# Altium footprint library PCB1.PcbLib: 25 footprints (part 2 of 2)
Each footprint in its own frame and in the unit in brackets; x right, y up, seen from the top. Pads: shape width x height; smd on the part's side, far side on the other; paste and mask are expansions set on the pad; w line width, h text height; cw(c..) or ccw(c..) is an arc to the next point about the centre after c.
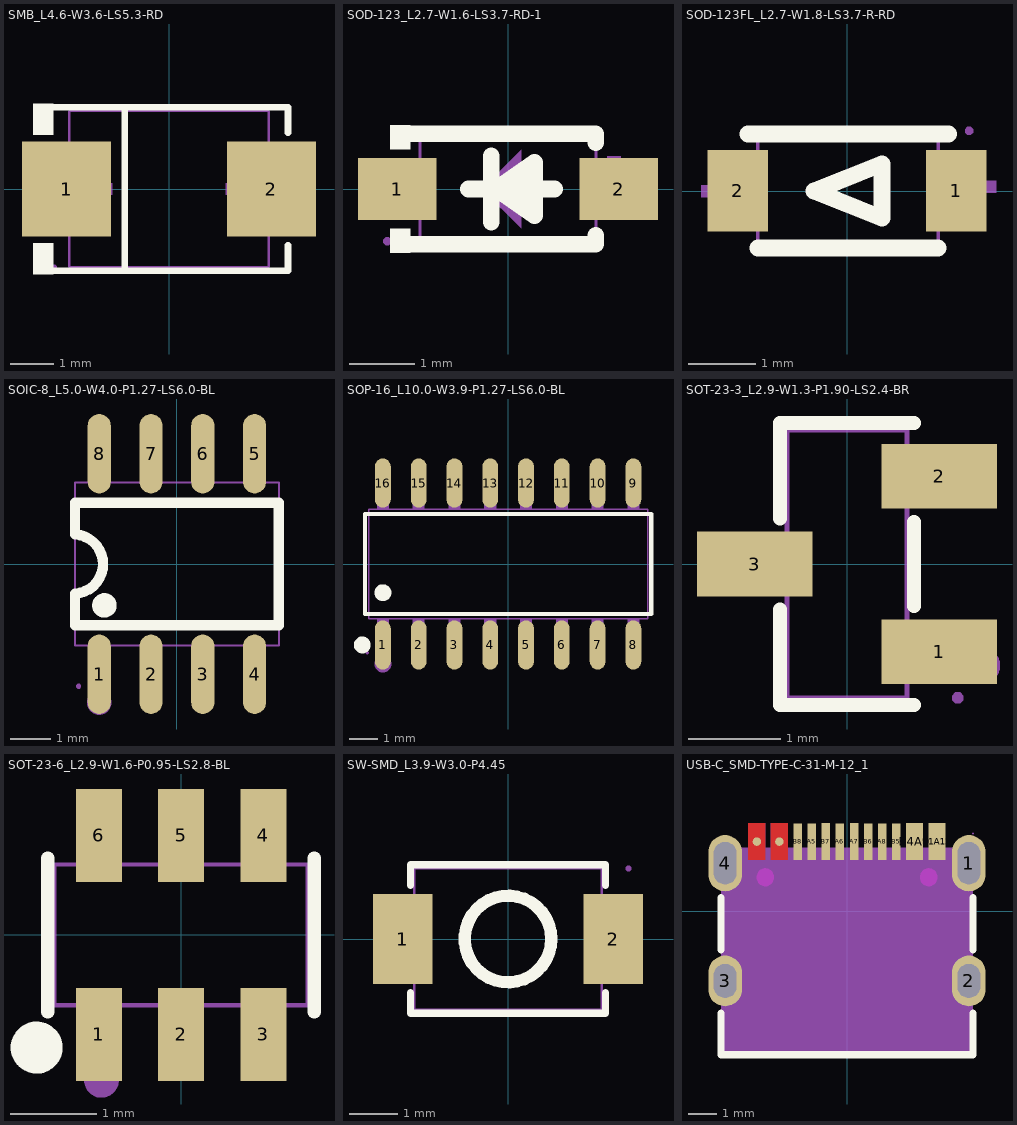
[diagram p1: the footprints below, top view; thin cyan lines are the x and y axes]

## SMB_L4.6-W3.6-LS5.3-RD [mm]
pads (2):
  rect 2.047x2.192 smd: 1(-2.361,0) 2(2.361,0)
Top Overlay:
  region: -2.668,-1.962 -2.668,-1.249 -3.125,-1.249 -3.125,-1.962
  region: -2.668,1.962 -2.668,1.249 -3.125,1.249 -3.125,1.962
  lines w0.152: -2.744,-1.886 2.744,-1.886 2.744,-1.299 ; -2.744,1.886 2.744,1.886 2.744,1.299 ; -1.016,-1.886 -1.016,1.886
Mechanical 6:
  region: 1.989,-0.905 1.989,0.905 1.717,0.905 1.717,-0.905
  region: 2.396,-0.136 2.396,0.136 1.31,0.136 1.31,-0.136
  region: -2.396,-0.136 -2.396,0.136 -1.31,0.136 -1.31,-0.136
Mechanical 7:
  lines w0.051: -2.3,-1.8 2.3,-1.8 2.3,1.8 -2.3,1.8 -2.3,-1.8
Mechanical 8:
  region: -2.59,-1.8 -2.59,-1.825 -2.625,-1.86 -2.674,-1.86 -2.709,-1.825 -2.709,-1.8 -2.709,-1.775 -2.674,-1.74 -2.625,-1.74 -2.59,-1.775 -2.59,-1.8
Mechanical 9:
  region: 2.649,-1.015 2.649,1.015 1.509,1.015 1.509,-1.015
  region: -2.649,-1.015 -2.649,1.015 -1.509,1.015 -1.509,-1.015

## SOD-123_L2.7-W1.6-LS3.7-RD-1 [mm]
pads (2):
  rect 1.2x0.95 smd: 1(-1.7,0) 2(1.7,0)
Top Overlay:
  region: -1.502,-0.977 -1.502,-0.607 -1.806,-0.607 -1.806,-0.977
  region: -1.502,0.977 -1.502,0.607 -1.806,0.607 -1.806,0.977
  region: 0.406,-0.406 0.406,0.406 -0.178,0
  lines w0.254: -1.644,0.849 -1.643,0.85 -1.346,0.85 1.346,0.85 1.346,0.706 ; -1.639,-0.849 -1.638,-0.85 -1.346,-0.85 1.346,-0.85 1.346,-0.706 ; -0.61,0 -0.28,0 ; -0.254,-0.508 -0.254,0.508 ; 0.406,0 0.72,0 ; -0.178,0 0.406,-0.406 0.406,0.406 -0.178,0
Mechanical 6:
  region: -0.4,0 0.2,-0.6 0.2,0.6
  region: -2.042,0.124 -1.2,0.124 -1.2,-0.083 -2.042,-0.083
  region: 1.525,-0.338 1.525,0.504 1.732,0.504 1.732,-0.339
  region: 1.19,0.212 2.032,0.212 2.032,0.005 1.189,0.005
Mechanical 7:
  lines w0.051: -1.35,-0.8 1.35,-0.8 1.35,0.8 -1.35,0.8 -1.35,-0.8
Mechanical 8:
  region: -1.79,-0.8 -1.79,-0.825 -1.825,-0.86 -1.875,-0.86 -1.91,-0.825 -1.91,-0.8 -1.91,-0.775 -1.875,-0.74 -1.825,-0.74 -1.79,-0.775 -1.79,-0.8
Mechanical 9:
  region: 1.5,-0.275 1.5,0.275 1.85,0.275 1.85,-0.275
  region: -1.85,-0.275 -1.85,0.275 -1.5,0.275 -1.5,-0.275
Mechanical 10:
  region: 1.34,-0.275 1.34,0.275 1.51,0.275 1.51,-0.275
  region: -1.51,-0.275 -1.51,0.275 -1.34,0.275 -1.34,-0.275

## SOD-123FL_L2.7-W1.8-LS3.7-R-RD [mil]
pads (2):
  rect 35.8x48 smd: 1(64.34,0) 2(-64.34,0)
Top Overlay:
  lines w10: -58.41,33.47 59.7,33.47 ; -52.35,-33.47 53.65,-33.47 ; -19.35,0 20.65,-16 20.65,16 -19.35,0
Mechanical 6:
  region: 65.86,-17.17 65.86,17.48 72.94,17.48 72.94,-17.17
  region: 87.9,-0.94 53.25,-0.94 53.25,6.14 87.9,6.14
  region: -51.08,-3.69 -85.73,-3.69 -85.73,3.39 -51.08,3.39
Mechanical 7:
  lines w2: -52.5,-35.43 53.8,-35.43 53.8,35.43 -52.5,35.43 -52.5,-35.43
Mechanical 8:
  region: 74.28,35.43 74.28,34.45 72.89,33.07 70.94,33.07 69.55,34.45 69.55,35.43 69.55,36.41 70.94,37.79 72.89,37.79 74.28,36.41 74.28,35.43
Mechanical 9:
  region: 49.12,20 72.74,20 72.74,-19.37 49.12,-19.37
  region: -72.81,20 -49.19,20 -49.19,-19.37 -72.81,-19.37

## SOIC-8_L5.0-W4.0-P1.27-LS6.0-BL [mil]
pads (8):
  oval 22.38x76.78 smd: 1(-75,-106.5) 2(-25,-106.5) 3(25,-106.5) 4(75,-106.5) 5(75,106.5) 6(25,106.5) 7(-25,106.5) 8(-75,106.5)
Top Overlay:
  circle w11.81: c-70,-40 r5.91
  lines w10: -98.43,-28.61 ccw(c-99.99,0) -98.23,28.59 ; -98.42,-28.61 -98.42,-59.05 98.42,-59.05 98.42,59.05 -98.42,59.05 -98.42,28.59
Mechanical 6:
  circle w11.81: c-75,-133.86 r5.91
Mechanical 7:
  lines w2: -98.42,-78.74 98.42,-78.74 98.42,78.74 -98.42,78.74 -98.42,-78.74
Mechanical 8:
  region: -92.64,-118.11 -92.64,-119.09 -94.02,-120.47 -95.98,-120.47 -97.36,-119.09 -97.36,-118.11 -97.36,-117.13 -95.98,-115.75 -94.02,-115.75 -92.64,-117.13 -92.64,-118.11
Mechanical 9:
  region: -83.07,-118.11 -83.07,-85.24 -66.93,-85.24 -66.93,-118.11
  region: -33.07,-118.11 -33.07,-85.24 -16.93,-85.24 -16.93,-118.11
  region: 16.93,-118.11 16.93,-85.24 33.07,-85.24 33.07,-118.11
  region: 66.93,-118.11 66.93,-85.24 83.07,-85.24 83.07,-118.11
  region: -83.07,85.24 -83.07,118.11 -66.93,118.11 -66.93,85.24
  region: -33.07,85.24 -33.07,118.11 -16.93,118.11 -16.93,85.24
  region: 16.93,85.24 16.93,118.11 33.07,118.11 33.07,85.24
  region: 66.93,85.24 66.93,118.11 83.07,118.11 83.07,85.24
Mechanical 10:
  region: -83.07,-85.63 -83.07,-76.38 -66.93,-76.38 -66.93,-85.63
  region: -33.07,-85.63 -33.07,-76.38 -16.93,-76.38 -16.93,-85.63
  region: 16.93,-85.63 16.93,-76.38 33.07,-76.38 33.07,-85.63
  region: 66.93,-85.63 66.93,-76.38 83.07,-76.38 83.07,-85.63
  region: -83.07,76.38 -83.07,85.63 -66.93,85.63 -66.93,76.38
  region: -33.07,76.38 -33.07,85.63 -16.93,85.63 -16.93,76.38
  region: 16.93,76.38 16.93,85.63 33.07,85.63 33.07,76.38
  region: 66.93,76.38 66.93,85.63 83.07,85.63 83.07,76.38

## SOP-16_L10.0-W3.9-P1.27-LS6.0-BL [mm]
pads (16):
  oval 0.56x1.745 smd: 1(-4.445,-2.872) 2(-3.175,-2.872) 3(-1.905,-2.872) 4(-0.635,-2.872) 5(0.635,-2.872) 6(1.905,-2.872) 7(3.175,-2.872) 8(4.445,-2.872) 9(4.445,2.872) 10(3.175,2.872) 11(1.905,2.872) 12(0.635,2.872) 13(-0.635,2.872) 14(-1.905,2.872) 15(-3.175,2.872) 16(-4.445,2.872)
Top Overlay:
  circle w0.3: c-5.177,-2.872 r0.15
  circle w0.3: c-4.445,-1.019 r0.15
  lines w0.152: -5.076,-1.771 5.076,-1.771 5.076,1.771 -5.076,1.771 -5.076,-1.771
Mechanical 6:
  circle w0.3: c-4.445,-3.55 r0.15
Mechanical 7:
  lines w0.051: -4.95,-1.95 4.95,-1.95 4.95,1.95 -4.95,1.95 -4.95,-1.95
Mechanical 8:
  region: -4.94,-3.15 -4.94,-3.175 -4.975,-3.21 -5.025,-3.21 -5.06,-3.175 -5.06,-3.15 -5.06,-3.125 -5.025,-3.09 -4.975,-3.09 -4.94,-3.125 -4.94,-3.15
Mechanical 9:
  region: -4.65,-3 -4.65,-2.165 -4.24,-2.165 -4.24,-3
  region: -3.38,-3 -3.38,-2.165 -2.97,-2.165 -2.97,-3
  region: -2.11,-3 -2.11,-2.165 -1.7,-2.165 -1.7,-3
  region: -0.84,-3 -0.84,-2.165 -0.43,-2.165 -0.43,-3
  region: 0.43,-3 0.43,-2.165 0.84,-2.165 0.84,-3
  region: 1.7,-3 1.7,-2.165 2.11,-2.165 2.11,-3
  region: 2.97,-3 2.97,-2.165 3.38,-2.165 3.38,-3
  region: 4.24,-3 4.24,-2.165 4.65,-2.165 4.65,-3
  region: -4.65,2.165 -4.65,3 -4.24,3 -4.24,2.165
  region: -3.38,2.165 -3.38,3 -2.97,3 -2.97,2.165
  region: -2.11,2.165 -2.11,3 -1.7,3 -1.7,2.165
  region: -0.84,2.165 -0.84,3 -0.43,3 -0.43,2.165
  region: 0.43,2.165 0.43,3 0.84,3 0.84,2.165
  region: 1.7,2.165 1.7,3 2.11,3 2.11,2.165
  region: 2.97,2.165 2.97,3 3.38,3 3.38,2.165
  region: 4.24,2.165 4.24,3 4.65,3 4.65,2.165
Mechanical 10:
  region: -4.65,-2.175 -4.65,-1.94 -4.24,-1.94 -4.24,-2.175
  region: -3.38,-2.175 -3.38,-1.94 -2.97,-1.94 -2.97,-2.175
  region: -2.11,-2.175 -2.11,-1.94 -1.7,-1.94 -1.7,-2.175
  region: -0.84,-2.175 -0.84,-1.94 -0.43,-1.94 -0.43,-2.175
  region: 0.43,-2.175 0.43,-1.94 0.84,-1.94 0.84,-2.175
  region: 1.7,-2.175 1.7,-1.94 2.11,-1.94 2.11,-2.175
  region: 2.97,-2.175 2.97,-1.94 3.38,-1.94 3.38,-2.175
  region: 4.24,-2.175 4.24,-1.94 4.65,-1.94 4.65,-2.175
  region: -4.65,1.94 -4.65,2.175 -4.24,2.175 -4.24,1.94
  region: -3.38,1.94 -3.38,2.175 -2.97,2.175 -2.97,1.94
  region: -2.11,1.94 -2.11,2.175 -1.7,2.175 -1.7,1.94
  region: -0.84,1.94 -0.84,2.175 -0.43,2.175 -0.43,1.94
  region: 0.43,1.94 0.43,2.175 0.84,2.175 0.84,1.94
  region: 1.7,1.94 1.7,2.175 2.11,2.175 2.11,1.94
  region: 2.97,1.94 2.97,2.175 3.38,2.175 3.38,1.94
  region: 4.24,1.94 4.24,2.175 4.65,2.175 4.65,1.94

## SOT-23-3_L2.9-W1.3-P1.90-LS2.4-BR [mm]
pads (3):
  rect 1.25x0.7 smd: 1(1,-0.95) 2(1,0.95) 3(-1,0)
Top Overlay:
  lines w0.152: -0.726,-0.495 -0.726,-1.526 0.726,-1.526 ; -0.726,0.495 -0.726,1.526 0.726,1.526 ; 0.726,-0.455 0.726,0.455
Mechanical 6:
  circle w0.2: c1.46,-1.1 r0.1
Mechanical 7:
  lines w0.051: -0.65,-1.45 0.65,-1.45 0.65,1.45 -0.65,1.45 -0.65,-1.45
Mechanical 8:
  region: 1.26,-1.45 1.26,-1.475 1.225,-1.51 1.175,-1.51 1.14,-1.475 1.14,-1.45 1.14,-1.425 1.175,-1.39 1.225,-1.39 1.26,-1.425 1.26,-1.45
Mechanical 9:
  region: -1.2,-0.215 -1.2,0.215 -0.9,0.215 -0.9,-0.215
  region: 0.9,-1.165 0.9,-0.735 1.2,-0.735 1.2,-1.165
  region: 0.9,0.735 0.9,1.165 1.2,1.165 1.2,0.735
Mechanical 10:
  region: -0.91,-0.215 -0.91,0.215 -0.64,0.215 -0.64,-0.215
  region: 0.64,-1.165 0.64,-0.735 0.91,-0.735 0.91,-1.165
  region: 0.64,0.735 0.64,1.165 0.91,1.165 0.91,0.735

## SOT-23-6_L2.9-W1.6-P0.95-LS2.8-BL [mm]
pads (6):
  rect 0.532x1.072 smd: 1(-0.95,-1.149) 2(0,-1.149) 3(0.95,-1.149) 4(0.95,1.149) 5(0,1.149) 6(-0.95,1.149)
Top Overlay:
  circle w0.3: c-1.668,-1.301 r0.15
  lines w0.152: -1.539,-0.889 -1.539,0.889 ; 1.539,-0.889 1.539,0.889
Mechanical 6:
  circle w0.2: c-0.92,-1.68 r0.1
Mechanical 7:
  lines w0.051: -1.463,-0.813 -1.463,0.813 1.463,0.813 1.463,-0.813 -1.463,-0.813
Mechanical 8:
  region: -1.403,-1.4 -1.403,-1.425 -1.438,-1.46 -1.488,-1.46 -1.523,-1.425 -1.523,-1.4 -1.523,-1.375 -1.488,-1.34 -1.438,-1.34 -1.403,-1.375 -1.403,-1.4
Mechanical 9:
  region: -1.165,0.925 -0.735,0.925 -0.735,1.4 -1.165,1.4
  region: -0.215,0.925 0.215,0.925 0.215,1.4 -0.215,1.4
  region: 0.735,0.925 1.165,0.925 1.165,1.4 0.735,1.4
  region: 0.735,-0.925 1.165,-0.925 1.165,-1.4 0.735,-1.4
  region: -0.215,-0.925 0.215,-0.925 0.215,-1.4 -0.215,-1.4
  region: -1.165,-0.925 -0.735,-0.925 -0.735,-1.4 -1.165,-1.4
Mechanical 10:
  region: -1.165,0.935 -0.735,0.935 -0.735,0.803 -1.165,0.803
  region: -0.215,0.935 0.215,0.935 0.215,0.803 -0.215,0.803
  region: 0.735,0.935 1.165,0.935 1.165,0.803 0.735,0.803
  region: 0.735,-0.803 1.165,-0.803 1.165,-0.935 0.735,-0.935
  region: -0.215,-0.803 0.215,-0.803 0.215,-0.935 -0.215,-0.935
  region: -1.165,-0.803 -0.735,-0.803 -0.735,-0.935 -1.165,-0.935

## SW-SMD_L3.9-W3.0-P4.45 [mm]
pads (2):
  rect 1.23x1.86 smd: 1(-2.185,0) 2(2.185,0)
Top Overlay:
  circle w0.254: c0,0 r0.9
  lines w0.152: -2.026,-1.11 -2.026,-1.541 2.026,-1.541 2.026,-1.11 ; -2.026,1.11 -2.026,1.541 2.026,1.541 2.026,1.11
Mechanical 7:
  lines w0.051: -1.95,-1.465 -1.95,1.465 1.95,1.465 1.95,-1.465 -1.95,-1.465
Mechanical 8:
  region: 2.56,1.465 2.56,1.44 2.525,1.405 2.475,1.405 2.44,1.44 2.44,1.465 2.44,1.49 2.475,1.525 2.525,1.525 2.56,1.49 2.56,1.465
Mechanical 9:
  region: -2.5,0.65 -2.5,-0.65 -1.6,-0.65 -1.6,0.65
  region: 2.5,0.65 2.5,-0.65 1.6,-0.65 1.6,0.65

## USB-C_SMD-TYPE-C-31-M-12_1 [mm]
pads (16):
  oval 1.2x2 hole 0.8 slot 1.5 at 90 deg paste+0 mask+0.051: 1(4.325,1.706) 4(-4.325,1.706)
  oval 1.2x1.8 hole 0.8 slot 1.2 at 90 deg copper offset 0,0 paste+0 mask+0.051: 2(4.325,-2.474) 3(-4.325,-2.474)
  round 0.3 smd: A1B12(-3.2,2.474) A4B9(-2.4,2.474)
  rect 0.3x1.3 smd paste-100 mask+0.051: A5(-1.25,2.474) A6(-0.25,2.474) A7(0.25,2.474) A8(1.25,2.474) B5(1.75,2.474) B6(0.75,2.474) B7(-0.75,2.474) B8(-1.75,2.474)
  rect 0.6x1.3 smd paste-100 mask+0.051: B1A12(3.2,2.474) B4A9(2.4,2.474)
Top Layer:
  region: -2.1,1.824 -2.1,3.124 -2.4,3.124 -2.7,3.124 -2.7,1.824 -2.4,1.824
  region: -2.9,1.824 -2.9,3.124 -3.2,3.124 -3.5,3.124 -3.5,1.824 -3.2,1.824
Bottom Layer:
  region: -2.1,1.824 -2.1,3.124 -2.4,3.124 -2.7,3.124 -2.7,1.824 -2.4,1.824
  region: -2.9,1.824 -2.9,3.124 -3.2,3.124 -3.5,3.124 -3.5,1.824 -3.2,1.824
Top Overlay:
  lines w0.254: -4.469,-3.613 -4.469,-5.094 4.471,-5.094 4.471,-3.612 ; -4.469,-1.376 -4.469,0.487 ; 4.471,-1.376 4.471,0.488
Top Paste:
  drawing of 16 lines, arcs and shapes, not listed
Keep-Out Layer:
  board cut-out: 3.2,1.206 3.2,1.146 3.154,1.036 3.07,0.951 2.96,0.906 2.84,0.906 2.73,0.951 2.646,1.036 2.6,1.146 2.6,1.206 2.6,1.265 2.646,1.376 2.73,1.46 2.84,1.506 2.96,1.506 3.07,1.46 3.154,1.376 3.2,1.265 3.2,1.206
  board cut-out: -2.6,1.206 -2.6,1.146 -2.646,1.036 -2.73,0.951 -2.84,0.906 -2.96,0.906 -3.07,0.951 -3.154,1.036 -3.2,1.146 -3.2,1.206 -3.2,1.265 -3.154,1.376 -3.07,1.46 -2.96,1.506 -2.84,1.506 -2.73,1.46 -2.646,1.376 -2.6,1.265 -2.6,1.206
Keep-Out Layer:
  circle w0.003: c2.9,1.206 r0.3
  circle w0.003: c-2.9,1.206 r0.3
  region: 3.2,1.206 3.191,1.134 3.166,1.066 3.124,1.007 3.07,0.959 3.006,0.925 2.936,0.908 2.864,0.908 2.794,0.925 2.729,0.959 2.675,1.007 2.634,1.066 2.609,1.134 2.6,1.206 2.609,1.277 2.634,1.345 2.675,1.405 2.729,1.453 2.794,1.486 2.864,1.503 2.936,1.503 3.006,1.486 3.07,1.453 3.124,1.405 3.166,1.345 3.191,1.277
  region: 3.2,1.206 3.2,1.146 3.154,1.036 3.07,0.951 2.96,0.906 2.84,0.906 2.73,0.951 2.646,1.036 2.6,1.146 2.6,1.206 2.6,1.265 2.646,1.376 2.73,1.46 2.84,1.506 2.96,1.506 3.07,1.46 3.154,1.376 3.2,1.265 3.2,1.206
  region: -2.6,1.206 -2.609,1.134 -2.634,1.066 -2.675,1.007 -2.729,0.959 -2.794,0.925 -2.864,0.908 -2.936,0.908 -3.006,0.925 -3.07,0.959 -3.124,1.007 -3.166,1.066 -3.191,1.134 -3.2,1.206 -3.191,1.277 -3.166,1.345 -3.124,1.405 -3.07,1.453 -3.006,1.486 -2.936,1.503 -2.864,1.503 -2.794,1.486 -2.729,1.453 -2.675,1.405 -2.634,1.345 -2.609,1.277
  region: -2.6,1.206 -2.6,1.146 -2.646,1.036 -2.73,0.951 -2.84,0.906 -2.96,0.906 -3.07,0.951 -3.154,1.036 -3.2,1.146 -3.2,1.206 -3.2,1.265 -3.154,1.376 -3.07,1.46 -2.96,1.506 -2.84,1.506 -2.73,1.46 -2.646,1.376 -2.6,1.265 -2.6,1.206
Mechanical 1:
  circle w0.003: c2.9,1.206 r0.3
  circle w0.003: c-2.9,1.206 r0.3
Mechanical 6:
  circle w0.25: c-2.9,1.206 r0.125
  circle w0.25: c2.9,1.206 r0.125
Mechanical 7:
  region: -4.47,-5.094 -4.47,2.256 4.47,2.256 4.47,-5.094
Mechanical 8:
  region: 4.505,2.756 4.505,2.744 4.487,2.726 4.463,2.726 4.445,2.744 4.445,2.756 4.445,2.768 4.463,2.786 4.487,2.786 4.505,2.768 4.505,2.756
Mechanical 9:
  region: 3,2.756 3.4,2.756 3.4,2.056 3,2.056
  region: 2.2,2.756 2.6,2.756 2.6,2.056 2.2,2.056
  region: -2.6,2.756 -2.2,2.756 -2.2,2.056 -2.6,2.056
  region: -3.4,2.756 -3,2.756 -3,2.056 -3.4,2.056
  region: -1.85,2.756 -1.65,2.756 -1.65,2.056 -1.85,2.056
  region: -1.35,2.756 -1.15,2.756 -1.15,2.056 -1.35,2.056
  region: -0.85,2.756 -0.65,2.756 -0.65,2.056 -0.85,2.056
  region: -0.35,2.756 -0.15,2.756 -0.15,2.056 -0.35,2.056
  region: 0.15,2.756 0.35,2.756 0.35,2.056 0.15,2.056
  region: 0.65,2.756 0.85,2.756 0.85,2.056 0.65,2.056
  region: 1.15,2.756 1.35,2.756 1.35,2.056 1.15,2.056
  region: 1.65,2.756 1.85,2.756 1.85,2.056 1.65,2.056
  region: -4.475,2.256 -4.175,2.256 -4.175,1.156 -4.475,1.156
  region: 4.175,2.256 4.475,2.256 4.475,1.156 4.175,1.156
  region: 4.175,-2.074 4.475,-2.074 4.475,-2.874 4.175,-2.874
  region: -4.475,-2.074 -4.175,-2.074 -4.175,-2.874 -4.475,-2.874
Multi-Layer:
  region: -2.1,1.824 -2.1,3.124 -2.4,3.124 -2.7,3.124 -2.7,1.824 -2.4,1.824
  region: -2.9,1.824 -2.9,3.124 -3.2,3.124 -3.5,3.124 -3.5,1.824 -3.2,1.824